# Altium schematic symbol library RECOM_RKE_H.Schlib: 1 symbol
Pins are listed as number, name and electrical type; pins without a type are passive.

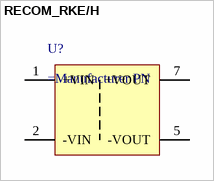
[diagram p0: symbol RECOM_RKE/H]

## RECOM_RKE/H
designator U?
Recom Isolated Power Module
pins: 1 +VIN, 2 -VIN, 4 NC hidden, 5 -VOUT, 7 +VOUT, 10 NC hidden